# EAGLE library part THAT1646 (library ryans-common-components)
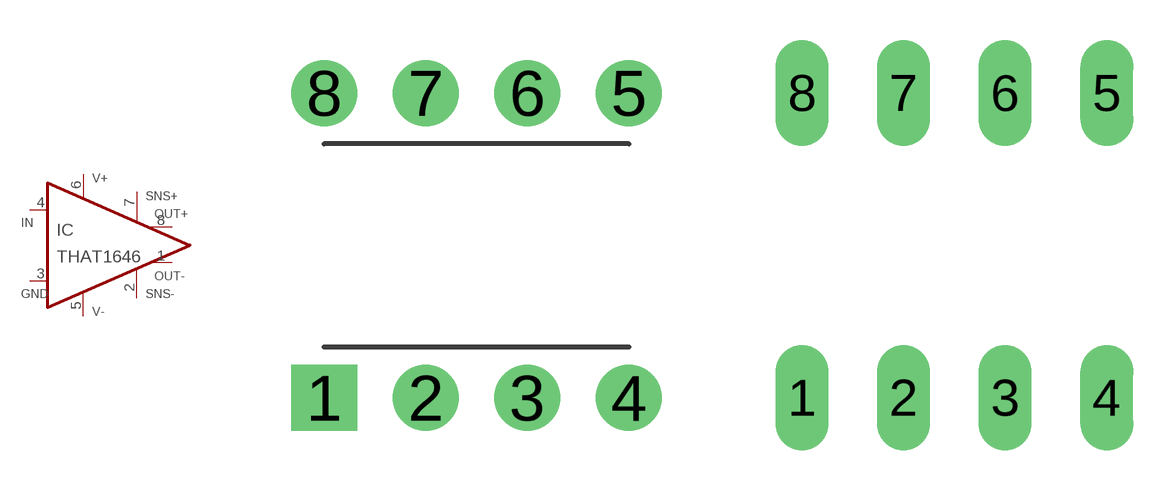
[diagram p0: symbol with the pads of DIP8; footprints DIP8, DIL08-SOCKET]

Designator prefix IC

## THAT1646-DIP8  [DIP8]
1  OUT-
2  SNS-
3  GND
4  IN
5  V-
6  V+
7  SNS+
8  OUT+

## THAT1646-DIP8-SOCKET  [DIL08-SOCKET]
Pads as for DIP8

## Footprint DIP8 (pad centres in mm)
drill 0.8 pad 1.651 square: 1 -3.81,-3.81
drill 0.8 pad 1.651: 2 -1.27,-3.81; 3 1.27,-3.81; 4 3.81,-3.81; 5 3.81,3.81
drill 0.813 pad 1.651: 6 1.27,3.81; 7 -1.27,3.81; 8 -3.81,3.81

## Footprint DIL08-SOCKET (pad centres in mm)
drill 0.813 long: 1 -3.81,-3.81; 2 -1.27,-3.81; 3 1.27,-3.81; 4 3.81,-3.81; 5 3.81,3.81; 6 1.27,3.81; 7 -1.27,3.81; 8 -3.81,3.81